# Altium schematic symbol library BAT.SchLib: 1 symbol
Pins are listed as number, name and electrical type; pins without a type are passive.

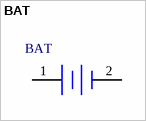
[diagram p0: symbol BAT]

## BAT
designator BAT  (value not drawn)
footprint BAT
pins: 1 +, 2 -